# Altium integrated library Xilinx XC9500XL.IntLib: 169 symbols (part 12 of 12)
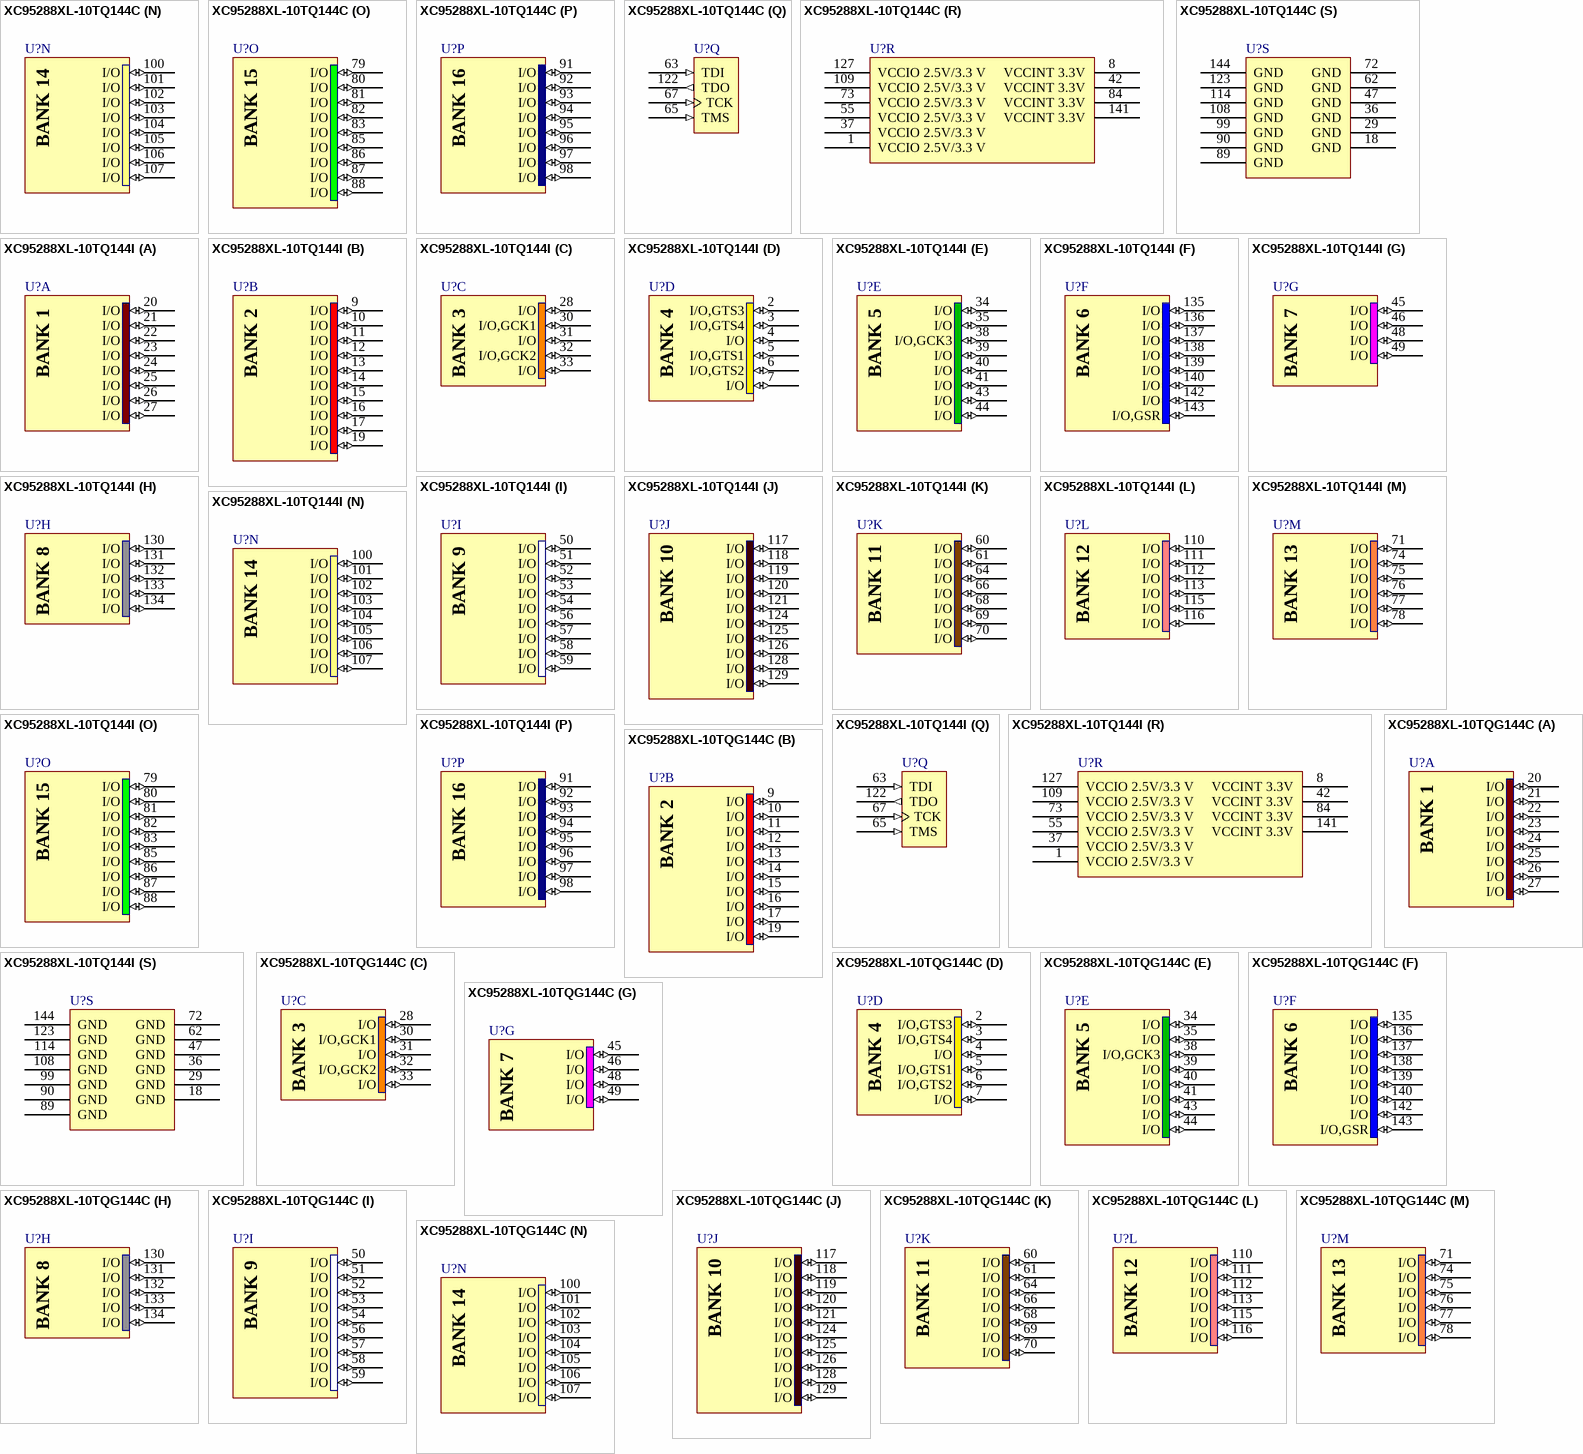
[diagram p69: symbols XC95288XL-10TQ144C to XC95288XL-10TQG144C]

## XC95288XL-10TQ144C
designator U?
FastFLASH XC900XL, 3.3V High-Performance 288 Macrocell CPLD, 117 User I/Os, 144-Pin TQFP, Speed Grade 10, Commercial Grade; Published: 17-Jul-2002; LatestRevisionDate: 18-Nov-2009; LatestRevisionNote: Updated to datasheet version 2.5 May-2009.; DatasheetVersion: ver2.1, Apr-2007; PackageVersion: ver1.2, Jun-2004; PackageReference: TQ144; Publisher: Altium Limited; PackageDescription: 144-Pin Thin Quad Flat Pack (TQ144); Supplier 1: Newark; Supplier Part Number 1: 01P2267; Code_JEDEC: MS-026-BFB; ComponentLink1Description: XC95288XL Datasheet; ComponentLink1URL: http://www.xilinx.com/support/documentation/data_sheets/ds055.pdf; ComponentLink2Description: TQ144 Package Drawing; ComponentLink2URL: http://www.xilinx.com/support/documentation/package_specs/tq144.pdf; ComponentLink3Description: XC9500XL Documents; ComponentLink3URL: http://www.xilinx.com/support/documentation/xc9500xl.htm; ComponentLink4Description: Xilinx.com Home; ComponentLink4URL: http://www.xilinx.com
footprint TQ144_N (Thin QFP, 144-Leads, Body 20x20mm, Pitch 0.5mm, IPC Medium Density)
footprint TQ144_L (Thin QFP, 144-Leads, Body 20x20mm, Pitch 0.5mm, IPC High Density)
footprint TQ144_M (Thin QFP, 144-Leads, Body 20x20mm, Pitch 0.5mm, IPC Low Density)
signal-integrity model XC95288XL_TQ144 (XC9500XL)
part A pins: 20 I/O (io), 21 I/O (io), 22 I/O (io), 23 I/O (io), 24 I/O (io), 25 I/O (io), 26 I/O (io), 27 I/O (io)
part B pins: 9 I/O (io), 10 I/O (io), 11 I/O (io), 12 I/O (io), 13 I/O (io), 14 I/O (io), 15 I/O (io), 16 I/O (io), 17 I/O (io), 19 I/O (io)
part C pins: 28 I/O (io), 30 I/O,GCK1 (io), 31 I/O (io), 32 I/O,GCK2 (io), 33 I/O (io)
part D pins: 2 I/O,GTS3 (io), 3 I/O,GTS4 (io), 4 I/O (io), 5 I/O,GTS1 (io), 6 I/O,GTS2 (io), 7 I/O (io)
part E pins: 34 I/O (io), 35 I/O (io), 38 I/O,GCK3 (io), 39 I/O (io), 40 I/O (io), 41 I/O (io), 43 I/O (io), 44 I/O (io)
part F pins: 135 I/O (io), 136 I/O (io), 137 I/O (io), 138 I/O (io), 139 I/O (io), 140 I/O (io), 142 I/O (io), 143 I/O,GSR (io)
part G pins: 45 I/O (io), 46 I/O (io), 48 I/O (io), 49 I/O (io)
part H pins: 130 I/O (io), 131 I/O (io), 132 I/O (io), 133 I/O (io), 134 I/O (io)
part I pins: 50 I/O (io), 51 I/O (io), 52 I/O (io), 53 I/O (io), 54 I/O (io), 56 I/O (io), 57 I/O (io), 58 I/O (io), 59 I/O (io)
part J pins: 117 I/O (io), 118 I/O (io), 119 I/O (io), 120 I/O (io), 121 I/O (io), 124 I/O (io), 125 I/O (io), 126 I/O (io), 128 I/O (io), 129 I/O (io)
part K pins: 60 I/O (io), 61 I/O (io), 64 I/O (io), 66 I/O (io), 68 I/O (io), 69 I/O (io), 70 I/O (io)
part L pins: 110 I/O (io), 111 I/O (io), 112 I/O (io), 113 I/O (io), 115 I/O (io), 116 I/O (io)
part M pins: 71 I/O (io), 74 I/O (io), 75 I/O (io), 76 I/O (io), 77 I/O (io), 78 I/O (io)
part N pins: 100 I/O (io), 101 I/O (io), 102 I/O (io), 103 I/O (io), 104 I/O (io), 105 I/O (io), 106 I/O (io), 107 I/O (io)
part O pins: 79 I/O (io), 80 I/O (io), 81 I/O (io), 82 I/O (io), 83 I/O (io), 85 I/O (io), 86 I/O (io), 87 I/O (io), 88 I/O (io)
part P pins: 91 I/O (io), 92 I/O (io), 93 I/O (io), 94 I/O (io), 95 I/O (io), 96 I/O (io), 97 I/O (io), 98 I/O (io)
part Q pins: 63 TDI (in), 65 TMS (in), 67 TCK (in), 122 TDO (out)
part R pins: 1 VCCIO 2.5V/3.3 V (power), 8 VCCINT 3.3V (power), 37 VCCIO 2.5V/3.3 V (power), 42 VCCINT 3.3V (power), 55 VCCIO 2.5V/3.3 V (power), 73 VCCIO 2.5V/3.3 V (power), 84 VCCINT 3.3V (power), 109 VCCIO 2.5V/3.3 V (power), 127 VCCIO 2.5V/3.3 V (power), 141 VCCINT 3.3V (power)
part S pins: 18 GND (power), 29 GND (power), 36 GND (power), 47 GND (power), 62 GND (power), 72 GND (power), 89 GND (power), 90 GND (power), 99 GND (power), 108 GND (power), 114 GND (power), 123 GND (power), 144 GND (power)
part A text: BANK 1
part B text: BANK 2
part C text: BANK 3
part D text: BANK 4
part E text: BANK 5
part F text: BANK 6
part G text: BANK 7
part H text: BANK 8
part I text: BANK 9
part J text: BANK 10
part K text: BANK 11
part L text: BANK 12
part M text: BANK 13
part N text: BANK 14
part O text: BANK 15
part P text: BANK 16

## XC95288XL-10TQ144I
designator U?
FastFLASH XC900XL, 3.3V High-Performance 288 Macrocell CPLD, 117 User I/Os, 144-Pin TQFP, Speed Grade 10, Industrial Grade; Published: 17-Jul-2002; LatestRevisionDate: 18-Nov-2009; LatestRevisionNote: Updated to datasheet version 2.5 May-2009.; DatasheetVersion: ver2.1, Apr-2007; PackageVersion: ver1.2, Jun-2004; PackageReference: TQ144; Publisher: Altium Limited; PackageDescription: 144-Pin Thin Quad Flat Pack (TQ144); Supplier 1: Digi-Key; Supplier Part Number 1: XC95288XL10TQ144I-ND; Code_JEDEC: MS-026-BFB; ComponentLink1Description: XC95288XL Datasheet; ComponentLink1URL: http://www.xilinx.com/support/documentation/data_sheets/ds055.pdf; ComponentLink2Description: TQ144 Package Drawing; ComponentLink2URL: http://www.xilinx.com/support/documentation/package_specs/tq144.pdf; ComponentLink3Description: XC9500XL Documents; ComponentLink3URL: http://www.xilinx.com/support/documentation/xc9500xl.htm; ComponentLink4Description: Xilinx.com Home; ComponentLink4URL: http://www.xilinx.com
footprint TQ144_N (Thin QFP, 144-Leads, Body 20x20mm, Pitch 0.5mm, IPC Medium Density)
footprint TQ144_L (Thin QFP, 144-Leads, Body 20x20mm, Pitch 0.5mm, IPC High Density)
footprint TQ144_M (Thin QFP, 144-Leads, Body 20x20mm, Pitch 0.5mm, IPC Low Density)
signal-integrity model XC95288XL_TQ144 (XC9500XL)
part A pins: 20 I/O (io), 21 I/O (io), 22 I/O (io), 23 I/O (io), 24 I/O (io), 25 I/O (io), 26 I/O (io), 27 I/O (io)
part B pins: 9 I/O (io), 10 I/O (io), 11 I/O (io), 12 I/O (io), 13 I/O (io), 14 I/O (io), 15 I/O (io), 16 I/O (io), 17 I/O (io), 19 I/O (io)
part C pins: 28 I/O (io), 30 I/O,GCK1 (io), 31 I/O (io), 32 I/O,GCK2 (io), 33 I/O (io)
part D pins: 2 I/O,GTS3 (io), 3 I/O,GTS4 (io), 4 I/O (io), 5 I/O,GTS1 (io), 6 I/O,GTS2 (io), 7 I/O (io)
part E pins: 34 I/O (io), 35 I/O (io), 38 I/O,GCK3 (io), 39 I/O (io), 40 I/O (io), 41 I/O (io), 43 I/O (io), 44 I/O (io)
part F pins: 135 I/O (io), 136 I/O (io), 137 I/O (io), 138 I/O (io), 139 I/O (io), 140 I/O (io), 142 I/O (io), 143 I/O,GSR (io)
part G pins: 45 I/O (io), 46 I/O (io), 48 I/O (io), 49 I/O (io)
part H pins: 130 I/O (io), 131 I/O (io), 132 I/O (io), 133 I/O (io), 134 I/O (io)
part I pins: 50 I/O (io), 51 I/O (io), 52 I/O (io), 53 I/O (io), 54 I/O (io), 56 I/O (io), 57 I/O (io), 58 I/O (io), 59 I/O (io)
part J pins: 117 I/O (io), 118 I/O (io), 119 I/O (io), 120 I/O (io), 121 I/O (io), 124 I/O (io), 125 I/O (io), 126 I/O (io), 128 I/O (io), 129 I/O (io)
part K pins: 60 I/O (io), 61 I/O (io), 64 I/O (io), 66 I/O (io), 68 I/O (io), 69 I/O (io), 70 I/O (io)
part L pins: 110 I/O (io), 111 I/O (io), 112 I/O (io), 113 I/O (io), 115 I/O (io), 116 I/O (io)
part M pins: 71 I/O (io), 74 I/O (io), 75 I/O (io), 76 I/O (io), 77 I/O (io), 78 I/O (io)
part N pins: 100 I/O (io), 101 I/O (io), 102 I/O (io), 103 I/O (io), 104 I/O (io), 105 I/O (io), 106 I/O (io), 107 I/O (io)
part O pins: 79 I/O (io), 80 I/O (io), 81 I/O (io), 82 I/O (io), 83 I/O (io), 85 I/O (io), 86 I/O (io), 87 I/O (io), 88 I/O (io)
part P pins: 91 I/O (io), 92 I/O (io), 93 I/O (io), 94 I/O (io), 95 I/O (io), 96 I/O (io), 97 I/O (io), 98 I/O (io)
part Q pins: 63 TDI (in), 65 TMS (in), 67 TCK (in), 122 TDO (out)
part R pins: 1 VCCIO 2.5V/3.3 V (power), 8 VCCINT 3.3V (power), 37 VCCIO 2.5V/3.3 V (power), 42 VCCINT 3.3V (power), 55 VCCIO 2.5V/3.3 V (power), 73 VCCIO 2.5V/3.3 V (power), 84 VCCINT 3.3V (power), 109 VCCIO 2.5V/3.3 V (power), 127 VCCIO 2.5V/3.3 V (power), 141 VCCINT 3.3V (power)
part S pins: 18 GND (power), 29 GND (power), 36 GND (power), 47 GND (power), 62 GND (power), 72 GND (power), 89 GND (power), 90 GND (power), 99 GND (power), 108 GND (power), 114 GND (power), 123 GND (power), 144 GND (power)
part A text: BANK 1
part B text: BANK 2
part C text: BANK 3
part D text: BANK 4
part E text: BANK 5
part F text: BANK 6
part G text: BANK 7
part H text: BANK 8
part I text: BANK 9
part J text: BANK 10
part K text: BANK 11
part L text: BANK 12
part M text: BANK 13
part N text: BANK 14
part O text: BANK 15
part P text: BANK 16

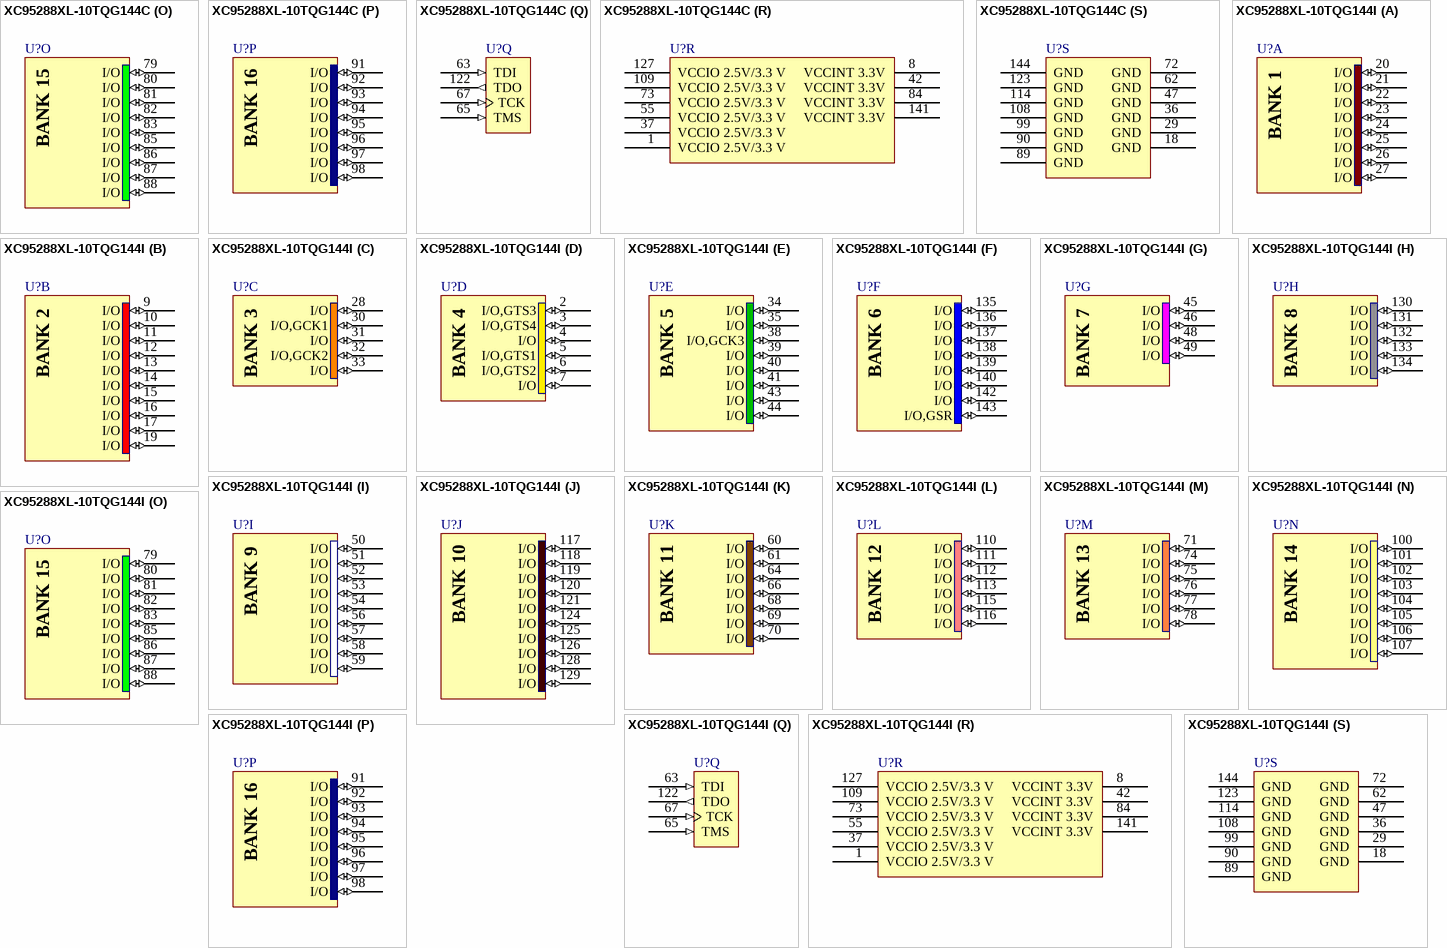
[diagram p58: symbols XC95288XL-10TQG144C to XC95288XL-10TQG144I]

## XC95288XL-10TQG144C
designator U?
FastFLASH XC900XL, 3.3V High-Performance 288 Macrocell CPLD, 117 User I/Os, 144-Pin TQFP, Speed Grade 10, Commercial Grade, Pb-Free; Published: 8-Sep-2006; LatestRevisionDate: 18-Nov-2009; LatestRevisionNote: Updated to datasheet version 2.5 May-2009.; DatasheetVersion: ver2.1, Apr-2007; PackageVersion: ver1.2, Jun-2004; PackageReference: TQG144; Publisher: Altium Limited; PackageDescription: 144-Pin Thin Quad Flat Pack (TQG144) - Pb-Free; Supplier 1: Digi-Key; Supplier Part Number 1: 122-1381-ND; Code_JEDEC: MS-026-BFB; ComponentLink1Description: XC95288XL Datasheet; ComponentLink1URL: http://www.xilinx.com/support/documentation/data_sheets/ds055.pdf; ComponentLink2Description: TQG144 Package Drawing; ComponentLink2URL: http://www.xilinx.com/support/documentation/package_specs/tq144.pdf; ComponentLink3Description: XC9500XL Documents; ComponentLink3URL: http://www.xilinx.com/support/documentation/xc9500xl.htm; ComponentLink4Description: Xilinx.com Home; ComponentLink4URL: http://www.xilinx.com
footprint TQG144_N (Thin QFP, 144-Leads, Body 20x20mm, Pitch 0.5mm, IPC Medium Density)
footprint TQG144_L (Thin QFP, 144-Leads, Body 20x20mm, Pitch 0.5mm, IPC High Density)
footprint TQG144_M (Thin QFP, 144-Leads, Body 20x20mm, Pitch 0.5mm, IPC Low Density)
signal-integrity model XC95288XL_TQ144 (XC9500XL)
part A pins: 20 I/O (io), 21 I/O (io), 22 I/O (io), 23 I/O (io), 24 I/O (io), 25 I/O (io), 26 I/O (io), 27 I/O (io)
part B pins: 9 I/O (io), 10 I/O (io), 11 I/O (io), 12 I/O (io), 13 I/O (io), 14 I/O (io), 15 I/O (io), 16 I/O (io), 17 I/O (io), 19 I/O (io)
part C pins: 28 I/O (io), 30 I/O,GCK1 (io), 31 I/O (io), 32 I/O,GCK2 (io), 33 I/O (io)
part D pins: 2 I/O,GTS3 (io), 3 I/O,GTS4 (io), 4 I/O (io), 5 I/O,GTS1 (io), 6 I/O,GTS2 (io), 7 I/O (io)
part E pins: 34 I/O (io), 35 I/O (io), 38 I/O,GCK3 (io), 39 I/O (io), 40 I/O (io), 41 I/O (io), 43 I/O (io), 44 I/O (io)
part F pins: 135 I/O (io), 136 I/O (io), 137 I/O (io), 138 I/O (io), 139 I/O (io), 140 I/O (io), 142 I/O (io), 143 I/O,GSR (io)
part G pins: 45 I/O (io), 46 I/O (io), 48 I/O (io), 49 I/O (io)
part H pins: 130 I/O (io), 131 I/O (io), 132 I/O (io), 133 I/O (io), 134 I/O (io)
part I pins: 50 I/O (io), 51 I/O (io), 52 I/O (io), 53 I/O (io), 54 I/O (io), 56 I/O (io), 57 I/O (io), 58 I/O (io), 59 I/O (io)
part J pins: 117 I/O (io), 118 I/O (io), 119 I/O (io), 120 I/O (io), 121 I/O (io), 124 I/O (io), 125 I/O (io), 126 I/O (io), 128 I/O (io), 129 I/O (io)
part K pins: 60 I/O (io), 61 I/O (io), 64 I/O (io), 66 I/O (io), 68 I/O (io), 69 I/O (io), 70 I/O (io)
part L pins: 110 I/O (io), 111 I/O (io), 112 I/O (io), 113 I/O (io), 115 I/O (io), 116 I/O (io)
part M pins: 71 I/O (io), 74 I/O (io), 75 I/O (io), 76 I/O (io), 77 I/O (io), 78 I/O (io)
part N pins: 100 I/O (io), 101 I/O (io), 102 I/O (io), 103 I/O (io), 104 I/O (io), 105 I/O (io), 106 I/O (io), 107 I/O (io)
part O pins: 79 I/O (io), 80 I/O (io), 81 I/O (io), 82 I/O (io), 83 I/O (io), 85 I/O (io), 86 I/O (io), 87 I/O (io), 88 I/O (io)
part P pins: 91 I/O (io), 92 I/O (io), 93 I/O (io), 94 I/O (io), 95 I/O (io), 96 I/O (io), 97 I/O (io), 98 I/O (io)
part Q pins: 63 TDI (in), 65 TMS (in), 67 TCK (in), 122 TDO (out)
part R pins: 1 VCCIO 2.5V/3.3 V (power), 8 VCCINT 3.3V (power), 37 VCCIO 2.5V/3.3 V (power), 42 VCCINT 3.3V (power), 55 VCCIO 2.5V/3.3 V (power), 73 VCCIO 2.5V/3.3 V (power), 84 VCCINT 3.3V (power), 109 VCCIO 2.5V/3.3 V (power), 127 VCCIO 2.5V/3.3 V (power), 141 VCCINT 3.3V (power)
part S pins: 18 GND (power), 29 GND (power), 36 GND (power), 47 GND (power), 62 GND (power), 72 GND (power), 89 GND (power), 90 GND (power), 99 GND (power), 108 GND (power), 114 GND (power), 123 GND (power), 144 GND (power)
part A text: BANK 1
part B text: BANK 2
part C text: BANK 3
part D text: BANK 4
part E text: BANK 5
part F text: BANK 6
part G text: BANK 7
part H text: BANK 8
part I text: BANK 9
part J text: BANK 10
part K text: BANK 11
part L text: BANK 12
part M text: BANK 13
part N text: BANK 14
part O text: BANK 15
part P text: BANK 16

## XC95288XL-10TQG144I
designator U?
FastFLASH XC900XL, 3.3V High-Performance 288 Macrocell CPLD, 117 User I/Os, 144-Pin TQFP, Speed Grade 10, Industrial Grade, Pb-Free; Published: 8-Sep-2006; LatestRevisionDate: 18-Nov-2009; LatestRevisionNote: Updated to datasheet version 2.5 May-2009.; DatasheetVersion: ver2.1, Apr-2007; PackageVersion: ver1.2, Jun-2004; PackageReference: TQG144; Publisher: Altium Limited; PackageDescription: 144-Pin Thin Quad Flat Pack (TQG144) - Pb-Free; Supplier 1: Digi-Key; Supplier Part Number 1: 122-1382-ND; Supplier 2: Newark; Supplier Part Number 2: 16R1651; Code_JEDEC: MS-026-BFB; ComponentLink1Description: XC95288XL Datasheet; ComponentLink1URL: http://www.xilinx.com/support/documentation/data_sheets/ds055.pdf; ComponentLink2Description: TQG144 Package Drawing; ComponentLink2URL: http://www.xilinx.com/support/documentation/package_specs/tq144.pdf; ComponentLink3Description: XC9500XL Documents; ComponentLink3URL: http://www.xilinx.com/support/documentation/xc9500xl.htm; ComponentLink4Description: Xilinx.com Home; ComponentLink4URL: http://www.xilinx.com
footprint TQG144_N (Thin QFP, 144-Leads, Body 20x20mm, Pitch 0.5mm, IPC Medium Density)
footprint TQG144_L (Thin QFP, 144-Leads, Body 20x20mm, Pitch 0.5mm, IPC High Density)
footprint TQG144_M (Thin QFP, 144-Leads, Body 20x20mm, Pitch 0.5mm, IPC Low Density)
signal-integrity model XC95288XL_TQ144 (XC9500XL)
part A pins: 20 I/O (io), 21 I/O (io), 22 I/O (io), 23 I/O (io), 24 I/O (io), 25 I/O (io), 26 I/O (io), 27 I/O (io)
part B pins: 9 I/O (io), 10 I/O (io), 11 I/O (io), 12 I/O (io), 13 I/O (io), 14 I/O (io), 15 I/O (io), 16 I/O (io), 17 I/O (io), 19 I/O (io)
part C pins: 28 I/O (io), 30 I/O,GCK1 (io), 31 I/O (io), 32 I/O,GCK2 (io), 33 I/O (io)
part D pins: 2 I/O,GTS3 (io), 3 I/O,GTS4 (io), 4 I/O (io), 5 I/O,GTS1 (io), 6 I/O,GTS2 (io), 7 I/O (io)
part E pins: 34 I/O (io), 35 I/O (io), 38 I/O,GCK3 (io), 39 I/O (io), 40 I/O (io), 41 I/O (io), 43 I/O (io), 44 I/O (io)
part F pins: 135 I/O (io), 136 I/O (io), 137 I/O (io), 138 I/O (io), 139 I/O (io), 140 I/O (io), 142 I/O (io), 143 I/O,GSR (io)
part G pins: 45 I/O (io), 46 I/O (io), 48 I/O (io), 49 I/O (io)
part H pins: 130 I/O (io), 131 I/O (io), 132 I/O (io), 133 I/O (io), 134 I/O (io)
part I pins: 50 I/O (io), 51 I/O (io), 52 I/O (io), 53 I/O (io), 54 I/O (io), 56 I/O (io), 57 I/O (io), 58 I/O (io), 59 I/O (io)
part J pins: 117 I/O (io), 118 I/O (io), 119 I/O (io), 120 I/O (io), 121 I/O (io), 124 I/O (io), 125 I/O (io), 126 I/O (io), 128 I/O (io), 129 I/O (io)
part K pins: 60 I/O (io), 61 I/O (io), 64 I/O (io), 66 I/O (io), 68 I/O (io), 69 I/O (io), 70 I/O (io)
part L pins: 110 I/O (io), 111 I/O (io), 112 I/O (io), 113 I/O (io), 115 I/O (io), 116 I/O (io)
part M pins: 71 I/O (io), 74 I/O (io), 75 I/O (io), 76 I/O (io), 77 I/O (io), 78 I/O (io)
part N pins: 100 I/O (io), 101 I/O (io), 102 I/O (io), 103 I/O (io), 104 I/O (io), 105 I/O (io), 106 I/O (io), 107 I/O (io)
part O pins: 79 I/O (io), 80 I/O (io), 81 I/O (io), 82 I/O (io), 83 I/O (io), 85 I/O (io), 86 I/O (io), 87 I/O (io), 88 I/O (io)
part P pins: 91 I/O (io), 92 I/O (io), 93 I/O (io), 94 I/O (io), 95 I/O (io), 96 I/O (io), 97 I/O (io), 98 I/O (io)
part Q pins: 63 TDI (in), 65 TMS (in), 67 TCK (in), 122 TDO (out)
part R pins: 1 VCCIO 2.5V/3.3 V (power), 8 VCCINT 3.3V (power), 37 VCCIO 2.5V/3.3 V (power), 42 VCCINT 3.3V (power), 55 VCCIO 2.5V/3.3 V (power), 73 VCCIO 2.5V/3.3 V (power), 84 VCCINT 3.3V (power), 109 VCCIO 2.5V/3.3 V (power), 127 VCCIO 2.5V/3.3 V (power), 141 VCCINT 3.3V (power)
part S pins: 18 GND (power), 29 GND (power), 36 GND (power), 47 GND (power), 62 GND (power), 72 GND (power), 89 GND (power), 90 GND (power), 99 GND (power), 108 GND (power), 114 GND (power), 123 GND (power), 144 GND (power)
part A text: BANK 1
part B text: BANK 2
part C text: BANK 3
part D text: BANK 4
part E text: BANK 5
part F text: BANK 6
part G text: BANK 7
part H text: BANK 8
part I text: BANK 9
part J text: BANK 10
part K text: BANK 11
part L text: BANK 12
part M text: BANK 13
part N text: BANK 14
part O text: BANK 15
part P text: BANK 16